# Altium footprint library WR-MPC4.PcbLib: 79 footprints (part 4 of 5)
Each footprint in its own frame and in the unit in brackets; x right, y up, seen from the top. Pads: shape width x height; smd on the part's side, far side on the other; paste and mask are expansions set on the pad; w line width, h text height; cw(c..) or ccw(c..) is an arc to the next point about the centre after c.
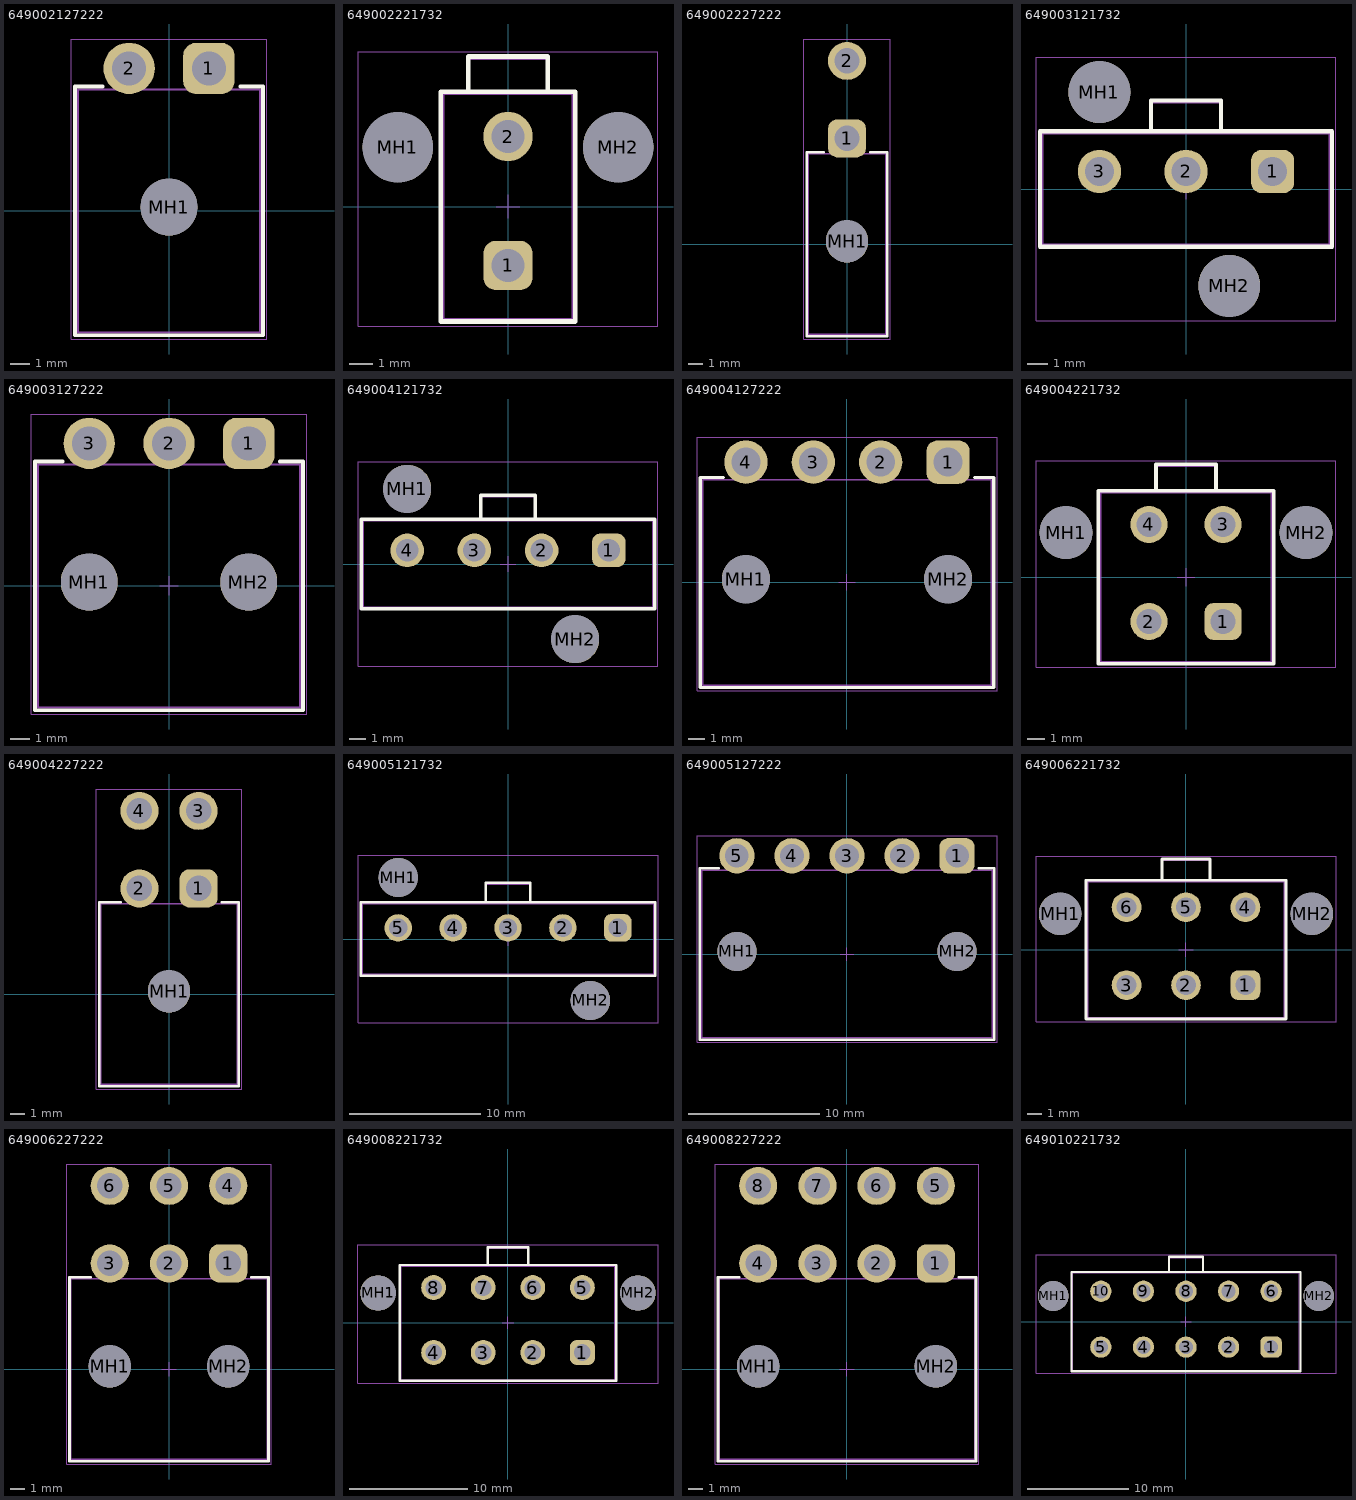
[diagram p3: the footprints below, top view; thin cyan lines are the x and y axes]

## 649002127222 [mm] "4.20mm Male Single Row Angled Header with Mounting Pegs, 2p"
height 5.8
pads (3):
  rrect50% 2.7x2.7 hole 1.8: 1(2.1,7.5)
  round 2.7 hole 1.8: 2(-2.1,7.5)
  round 3 hole 3 unplated: MH1(0,0.2)
Top Overlay:
  lines w0.2: -3.5,6.55 -4.95,6.55 -4.95,-6.55 4.95,-6.55 4.95,6.55 3.75,6.55
Top Designator:
  text ".Designator" at -7.498,-0.5 h1.5
Top Component Outline:
  lines w0.1: -4.8,-6.4 -4.8,6.4 4.8,6.4 4.8,-6.4 -4.8,-6.4
Top Courtyard:
  lines w0.05: -0.5,0 0.5,0 ; 0,-0.5 0,0.5 ; -5.15,-6.75 5.15,-6.75 5.15,9.05 -5.15,9.05 -5.15,-6.75
3D body "649002127222.stp": height 7.23, standoff -3.47, extent -4.8,-6.4 4.8,8.07

## 649002221732 [mm] "4.20mm Male Dual Row Vertical Header with Mounting Pegs, 2p"
height 12.8
pads (4):
  rrect50% 2.1x2.1 hole 1.4: 1(0,-2.51)
  round 2.1 hole 1.4: 2(0,2.99)
  round 3 hole 3 unplated: MH1(-4.7,2.53) MH2(4.7,2.53)
Top Overlay:
  lines w0.2: -1.7,4.94 -1.7,6.4 1.7,6.4 1.7,4.94 ; -2.875,-4.9 2.875,-4.9 2.875,4.9 -2.875,4.9 -2.875,-4.9
Top Designator:
  text ".Designator" at -7.498,-0.5 h1.5
Top Component Outline:
  lines w0.1: -1.7,4.84 -1.7,6.3 1.7,6.3 1.7,4.84 ; -2.75,-4.8 -2.75,4.8 2.75,4.8 2.75,-4.8 -2.75,-4.8
Top Courtyard:
  lines w0.05: -0.5,0 0.5,0 ; 0,-0.5 0,0.5 ; -6.4,-5.1 6.4,-5.1 6.4,6.6 -6.4,6.6 -6.4,-5.1
3D body "649002221732.stp": height 12.84, standoff -3.46, extent -5.7,-4.8 5.7,6.3

## 649002227222 [mm] "4.20mm Male Dual Row Angled Header with Mounting Pegs, 2p"
height 10
pads (3):
  rrect50% 2.7x2.7 hole 1.8: 1(0,7.5)
  round 2.7 hole 1.8: 2(0,13)
  round 3 hole 3 unplated: MH1(0,0.2)
Top Overlay:
  lines w0.2: -1.65,6.525 -2.85,6.525 -2.85,-6.525 2.85,-6.525 2.85,6.525 1.65,6.525
Top Designator:
  text ".Designator" at -7.498,-0.5 h1.5
Top Component Outline:
  lines w0.1: -2.75,-6.4 2.75,-6.4 2.75,6.4 -2.75,6.4 -2.75,-6.4
Top Courtyard:
  lines w0.05: -0.5,0 0.5,0 ; 0,-0.5 0,0.5 ; -3.05,-6.725 -3.05,14.55 3.05,14.55 3.05,-6.725 -3.05,-6.725
3D body "649002227222.stp": height 11.43, standoff -3.47, extent -2.7,-6.4 2.996,13.57

## 649003121732 [mm] "4.20mm Male Single Row Vertical Header with Mounting Pegs, 3p"
height 12.45
pads (5):
  rrect50% 2.1x2.1 hole 1.4: 1(4.2,0.85)
  round 2.1 hole 1.4: 2(0,0.85) 3(-4.2,0.85)
  round 3 hole 3 unplated: MH1(-4.2,4.7) MH2(2.1,-4.7)
Top Overlay:
  lines w0.2: -1.7,2.8 -1.7,4.3 1.7,4.3 1.7,2.8 ; -7.075,-2.8 7.075,-2.8 7.075,2.8 -7.075,2.8 -7.075,-2.8
Top Designator:
  text ".Designator" at -7.498,-0.5 h1.5
Top Component Outline:
  lines w0.1: -1.7,2.7 -1.7,4.2 1.7,4.2 1.7,2.7 ; -6.95,-2.7 -6.95,2.7 6.95,2.7 6.95,-2.7 -6.95,-2.7
Top Courtyard:
  lines w0.05: -0.5,0 0.5,0 ; 0,-0.5 0,0.5 ; -7.275,-6.4 -7.275,6.4 7.275,6.4 7.275,-6.4 -7.275,-6.4
3D body "649003121732.stp": height 12.83, standoff -3.47, extent -6.95,-5.7 6.85,5.7

## 649003127222 [mm] "4.20mm Male Single Row Angled Header with Mounting Pegs, 3p"
height 5.8
pads (5):
  rrect50% 2.7x2.7 hole 1.8: 1(4.2,7.5)
  round 2.7 hole 1.8: 2(0,7.5) 3(-4.2,7.5)
  round 3 hole 3 unplated: MH1(-4.2,0.2) MH2(4.2,0.2)
Top Overlay:
  lines w0.2: -5.6,6.55 -7.05,6.55 -7.05,-6.55 7.05,-6.55 7.05,6.55 5.85,6.55
Top Designator:
  text ".Designator" at -7.498,-0.5 h1.5
Top Component Outline:
  lines w0.1: -6.9,-6.4 6.9,-6.4 6.9,6.4 -6.9,6.4 -6.9,-6.4
Top Courtyard:
  lines w0.05: -0.5,0 0.5,0 ; 0,-0.5 0,0.5 ; -7.25,-6.75 -7.25,9.05 7.25,9.05 7.25,-6.75 -7.25,-6.75
3D body "649003127222.stp": height 7.23, standoff -3.47, extent -6.9,-6.4 6.9,8.07

## 649004121732 [mm] "4.20mm Male Single Row Vertical Header with Mounting Pegs, 4p"
height 12.45
pads (6):
  rrect50% 2.1x2.1 hole 1.4: 1(6.3,0.85)
  round 2.1 hole 1.4: 2(2.1,0.85) 3(-2.1,0.85) 4(-6.3,0.85)
  round 3 hole 3 unplated: MH1(-6.3,4.7) MH2(4.2,-4.7)
Top Overlay:
  lines w0.2: -1.7,2.8 -1.7,4.3 1.7,4.3 1.7,2.8 ; -9.175,-2.8 -9.175,2.8 9.175,2.8 9.175,-2.8 -9.175,-2.8
Top Designator:
  text ".Designator" at -7.498,-0.5 h1.5
Top Component Outline:
  lines w0.1: -1.7,2.7 -1.7,4.2 1.7,4.2 1.7,2.7 ; -9.05,-2.7 9.05,-2.7 9.05,2.7 -9.05,2.7 -9.05,-2.7
Top Courtyard:
  lines w0.05: -0.5,0 0.5,0 ; 0,-0.5 0,0.5 ; -9.375,-6.4 9.375,-6.4 9.375,6.4 -9.375,6.4 -9.375,-6.4
3D body "649004121732.stp": height 12.83, standoff -3.47, extent -9,-5.7 9,5.7

## 649004127222 [mm] "4.20mm Male Single Row Angled Header with Mounting Pegs, 4p"
height 5.8
pads (6):
  rrect50% 2.7x2.7 hole 1.8: 1(6.3,7.5)
  round 2.7 hole 1.8: 2(2.1,7.5) 3(-2.1,7.5) 4(-6.3,7.5)
  round 3 hole 3 unplated: MH1(-6.3,0.2) MH2(6.3,0.2)
Top Overlay:
  lines w0.2: -7.7,6.55 -9.15,6.55 -9.15,-6.55 9.15,-6.55 9.15,6.55 7.95,6.55
Top Designator:
  text ".Designator" at -7.498,-0.5 h1.5
Top Component Outline:
  lines w0.1: -9,-6.4 -9,6.4 9,6.4 9,-6.4 -9,-6.4
Top Courtyard:
  lines w0.05: -0.5,0 0.5,0 ; 0,-0.5 0,0.5 ; -9.35,-6.75 9.35,-6.75 9.35,9.05 -9.35,9.05 -9.35,-6.75
3D body "649004127222.stp": height 7.23, standoff -3.47, extent -9,-6.4 9,8.07

## 649004221732 [mm] "4.20mm Male Dual Row Vertical Header with Mounting Pegs, 4p"
height 12.8
pads (6):
  rrect50% 2.1x2.1 hole 1.4: 1(2.1,-2.51)
  round 2.1 hole 1.4: 2(-2.1,-2.51) 3(2.1,2.99) 4(-2.1,2.99)
  round 3 hole 3 unplated: MH1(-6.8,2.53) MH2(6.8,2.53)
Top Overlay:
  lines w0.2: -1.7,4.94 -1.7,6.4 1.7,6.4 1.7,4.94 ; -4.975,-4.9 4.975,-4.9 4.975,4.9 -4.975,4.9 -4.975,-4.9
Top Designator:
  text ".Designator" at -7.498,-0.5 h1.5
Top Component Outline:
  lines w0.1: -1.7,4.84 -1.7,6.3 1.7,6.3 1.7,4.84 ; -4.85,-4.8 -4.85,4.8 4.85,4.8 4.85,-4.8 -4.85,-4.8
Top Courtyard:
  lines w0.05: -0.5,0 0.5,0 ; 0,-0.5 0,0.5 ; -8.5,-5.1 8.5,-5.1 8.5,6.6 -8.5,6.6 -8.5,-5.1
3D body "649004221732.stp": height 12.84, standoff -3.46, extent -7.8,-4.8 7.8,6.3

## 649004227222 [mm] "4.20mm Male Dual Row Angled Header with Mounting Pegs, 4p"
height 10
pads (5):
  rrect50% 2.7x2.7 hole 1.8: 1(2.1,7.5)
  round 2.7 hole 1.8: 2(-2.1,7.5) 3(2.1,13) 4(-2.1,13)
  round 3 hole 3 unplated: MH1(0,0.2)
Top Overlay:
  lines w0.2: -3.45,6.525 -4.95,6.525 -4.95,-6.525 4.95,-6.525 4.95,6.525 3.75,6.525
Top Designator:
  text ".Designator" at -7.498,-0.5 h1.5
Top Component Outline:
  lines w0.1: -4.85,-6.4 4.85,-6.4 4.85,6.4 -4.85,6.4 -4.85,-6.4
Top Courtyard:
  lines w0.05: -0.5,0 0.5,0 ; 0,-0.5 0,0.5 ; -5.15,-6.725 -5.15,14.55 5.15,14.55 5.15,-6.725 -5.15,-6.725
3D body "649004227222.stp": height 11.43, standoff -3.47, extent -4.8,-6.4 5.096,13.57

## 649005121732 [mm] "4.20mm Male Single Row Vertical Header with Mounting Pegs, 5p"
height 12.45
pads (7):
  rrect50% 2.1x2.1 hole 1.4: 1(8.4,0.85)
  round 2.1 hole 1.4: 2(4.2,0.85) 3(0,0.85) 4(-4.2,0.85) 5(-8.4,0.85)
  round 3 hole 3 unplated: MH1(-8.4,4.7) MH2(6.3,-4.7)
Top Overlay:
  lines w0.2: -1.7,2.8 -1.7,4.3 1.7,4.3 1.7,2.8 ; -11.275,-2.8 11.275,-2.8 11.275,2.8 -11.275,2.8 -11.275,-2.8
Top Designator:
  text ".Designator" at -7.498,-0.5 h1.5
Top Component Outline:
  lines w0.1: -1.7,2.7 -1.7,4.2 1.7,4.2 1.7,2.7 ; -11.15,-2.7 -11.15,2.7 11.15,2.7 11.15,-2.7 -11.15,-2.7
Top Courtyard:
  lines w0.05: -0.5,0 0.5,0 ; 0,-0.5 0,0.5 ; -11.475,-6.4 -11.475,6.4 11.475,6.4 11.475,-6.4 -11.475,-6.4
3D body "649005121732.stp": height 12.83, standoff -3.47, extent -11.1,-5.7 11.1,5.7

## 649005127222 [mm] "4.20mm Male Single Row Angled Header with Mounting Pegs, 5p"
height 5.8
pads (7):
  rrect50% 2.7x2.7 hole 1.8: 1(8.4,7.5)
  round 2.7 hole 1.8: 2(4.2,7.5) 3(0,7.5) 4(-4.2,7.5) 5(-8.4,7.5)
  round 3 hole 3 unplated: MH1(-8.4,0.2) MH2(8.4,0.2)
Top Overlay:
  lines w0.2: -9.8,6.55 -11.25,6.55 -11.25,-6.55 11.25,-6.55 11.25,6.55 10.05,6.55
Top Designator:
  text ".Designator" at -7.498,-0.5 h1.5
Top Component Outline:
  lines w0.1: -11.1,-6.4 -11.1,6.4 11.1,6.4 11.1,-6.4 -11.1,-6.4
Top Courtyard:
  lines w0.05: -0.5,0 0.5,0 ; 0,-0.5 0,0.5 ; -11.45,-6.75 11.45,-6.75 11.45,9.05 -11.45,9.05 -11.45,-6.75
3D body "649005127222.stp": height 7.23, standoff -3.47, extent -11.1,-6.4 11.1,8.07

## 649006221732 [mm] "4.20mm Male Dual Row Vertical Header with Mounting Pegs, 6p"
height 12.8
pads (8):
  rrect50% 2.1x2.1 hole 1.4: 1(4.2,-2.51)
  round 2.1 hole 1.4: 2(0,-2.51) 3(-4.2,-2.51) 4(4.2,2.99) 5(0,2.99) 6(-4.2,2.99)
  round 3 hole 3 unplated: MH1(-8.9,2.53) MH2(8.9,2.53)
Top Overlay:
  lines w0.2: -1.7,4.94 -1.7,6.4 1.7,6.4 1.7,4.94 ; -7.075,-4.9 7.075,-4.9 7.075,4.9 -7.075,4.9 -7.075,-4.9
Top Designator:
  text ".Designator" at -7.498,-0.5 h1.5
Top Component Outline:
  lines w0.1: -1.7,4.84 -1.7,6.3 1.7,6.3 1.7,4.84 ; -6.95,-4.8 -6.95,4.8 6.95,4.8 6.95,-4.8 -6.95,-4.8
Top Courtyard:
  lines w0.05: -0.5,0 0.5,0 ; 0,-0.5 0,0.5 ; -10.6,-5.1 10.6,-5.1 10.6,6.6 -10.6,6.6 -10.6,-5.1
3D body "649006221732.stp": height 12.84, standoff -3.46, extent -9.9,-4.8 9.9,6.3

## 649006227222 [mm] "4.20mm Male Dual Row Angled Header with Mounting Pegs, 6p"
height 10
pads (8):
  rrect50% 2.7x2.7 hole 1.8: 1(4.2,7.5)
  round 2.7 hole 1.8: 2(0,7.5) 3(-4.2,7.5) 4(4.2,13) 5(0,13) 6(-4.2,13)
  round 3 hole 3 unplated: MH1(-4.2,0.2) MH2(4.2,0.2)
Top Overlay:
  lines w0.2: -5.55,6.525 -7.05,6.525 -7.05,-6.525 7.05,-6.525 7.05,6.525 5.85,6.525
Top Designator:
  text ".Designator" at -7.498,-0.5 h1.5
Top Component Outline:
  lines w0.1: -6.95,-6.4 -6.95,6.4 6.95,6.4 6.95,-6.4 -6.95,-6.4
Top Courtyard:
  lines w0.05: -0.5,0 0.5,0 ; 0,-0.5 0,0.5 ; -7.25,-6.725 7.25,-6.725 7.25,14.55 -7.25,14.55 -7.25,-6.725
3D body "649006227222.stp": height 11.43, standoff -3.47, extent -6.9,-6.4 7.196,13.57

## 649008221732 [mm] "4.20mm Male Dual Row Vertical Header with Mounting Pegs, 8p"
height 12.8
pads (10):
  rrect50% 2.1x2.1 hole 1.4: 1(6.3,-2.51)
  round 2.1 hole 1.4: 2(2.1,-2.51) 3(-2.1,-2.51) 4(-6.3,-2.51) 5(6.3,2.99) 6(2.1,2.99) 7(-2.1,2.99) 8(-6.3,2.99)
  round 3 hole 3 unplated: MH1(-11,2.53) MH2(11,2.53)
Top Overlay:
  lines w0.2: -1.7,4.94 -1.7,6.4 1.7,6.4 1.7,4.94 ; -9.175,-4.9 -9.175,4.9 9.175,4.9 9.175,-4.9 -9.175,-4.9
Top Designator:
  text ".Designator" at -7.498,-0.5 h1.5
Top Component Outline:
  lines w0.1: -1.7,4.84 -1.7,6.3 1.7,6.3 1.7,4.84 ; -9.05,-4.8 9.05,-4.8 9.05,4.8 -9.05,4.8 -9.05,-4.8
Top Courtyard:
  lines w0.05: -0.5,0 0.5,0 ; 0,-0.5 0,0.5 ; -12.7,-5.1 -12.7,6.6 12.7,6.6 12.7,-5.1 -12.7,-5.1
3D body "649008221732.stp": height 12.84, standoff -3.46, extent -12,-4.8 12,6.3

## 649008227222 [mm] "4.20mm Male Dual Row Angled Header with Mounting Pegs, 8p"
height 10
pads (10):
  rrect50% 2.7x2.7 hole 1.8: 1(6.3,7.5)
  round 2.7 hole 1.8: 2(2.1,7.5) 3(-2.1,7.5) 4(-6.3,7.5) 5(6.3,13) 6(2.1,13) 7(-2.1,13) 8(-6.3,13)
  round 3 hole 3 unplated: MH1(-6.3,0.2) MH2(6.3,0.2)
Top Overlay:
  lines w0.2: -7.65,6.525 -9.15,6.525 -9.15,-6.525 9.15,-6.525 9.15,6.525 7.95,6.525
Top Designator:
  text ".Designator" at -7.498,-0.5 h1.5
Top Component Outline:
  lines w0.1: -9.05,-6.4 9.05,-6.4 9.05,6.4 -9.05,6.4 -9.05,-6.4
Top Courtyard:
  lines w0.05: -0.5,0 0.5,0 ; 0,-0.5 0,0.5 ; -9.35,-6.725 -9.35,14.55 9.35,14.55 9.35,-6.725 -9.35,-6.725
3D body "649008227222.stp": height 11.43, standoff -3.47, extent -9,-6.4 9.296,13.57

## 649010221732 [mm] "4.20mm Male Dual Row Vertical Header with Mounting Pegs, 10p"
height 12.8
pads (12):
  rrect50% 2.1x2.1 hole 1.4: 1(8.4,-2.51)
  round 2.1 hole 1.4: 2(4.2,-2.51) 3(0,-2.51) 4(-4.2,-2.51) 5(-8.4,-2.51) 6(8.4,2.99) 7(4.2,2.99) 8(0,2.99) 9(-4.2,2.99) 10(-8.4,2.99)
  round 3 hole 3 unplated: MH1(-13.1,2.53) MH2(13.1,2.53)
Top Overlay:
  lines w0.2: -1.7,4.94 -1.7,6.4 1.7,6.4 1.7,4.94 ; -11.275,-4.9 -11.275,4.9 11.275,4.9 11.275,-4.9 -11.275,-4.9
Top Designator:
  text ".Designator" at -7.498,-0.5 h1.5
Top Component Outline:
  lines w0.1: -1.7,4.84 -1.7,6.3 1.7,6.3 1.7,4.84 ; -11.15,-4.8 11.15,-4.8 11.15,4.8 -11.15,4.8 -11.15,-4.8
Top Courtyard:
  lines w0.05: -0.5,0 0.5,0 ; 0,-0.5 0,0.5 ; -14.8,-5.1 -14.8,6.6 14.8,6.6 14.8,-5.1 -14.8,-5.1
3D body "649010221732.stp": height 12.84, standoff -3.46, extent -14.1,-4.8 14.1,6.3